# Altium footprint library adafruit.PCBLIB: 643 footprints (part 24 of 41)
Each footprint in its own frame and in the unit in brackets; x right, y up, seen from the top. Pads: shape width x height; smd on the part's side, far side on the other; paste and mask are expansions set on the pad; w line width, h text height; cw(c..) or ccw(c..) is an arc to the next point about the centre after c.
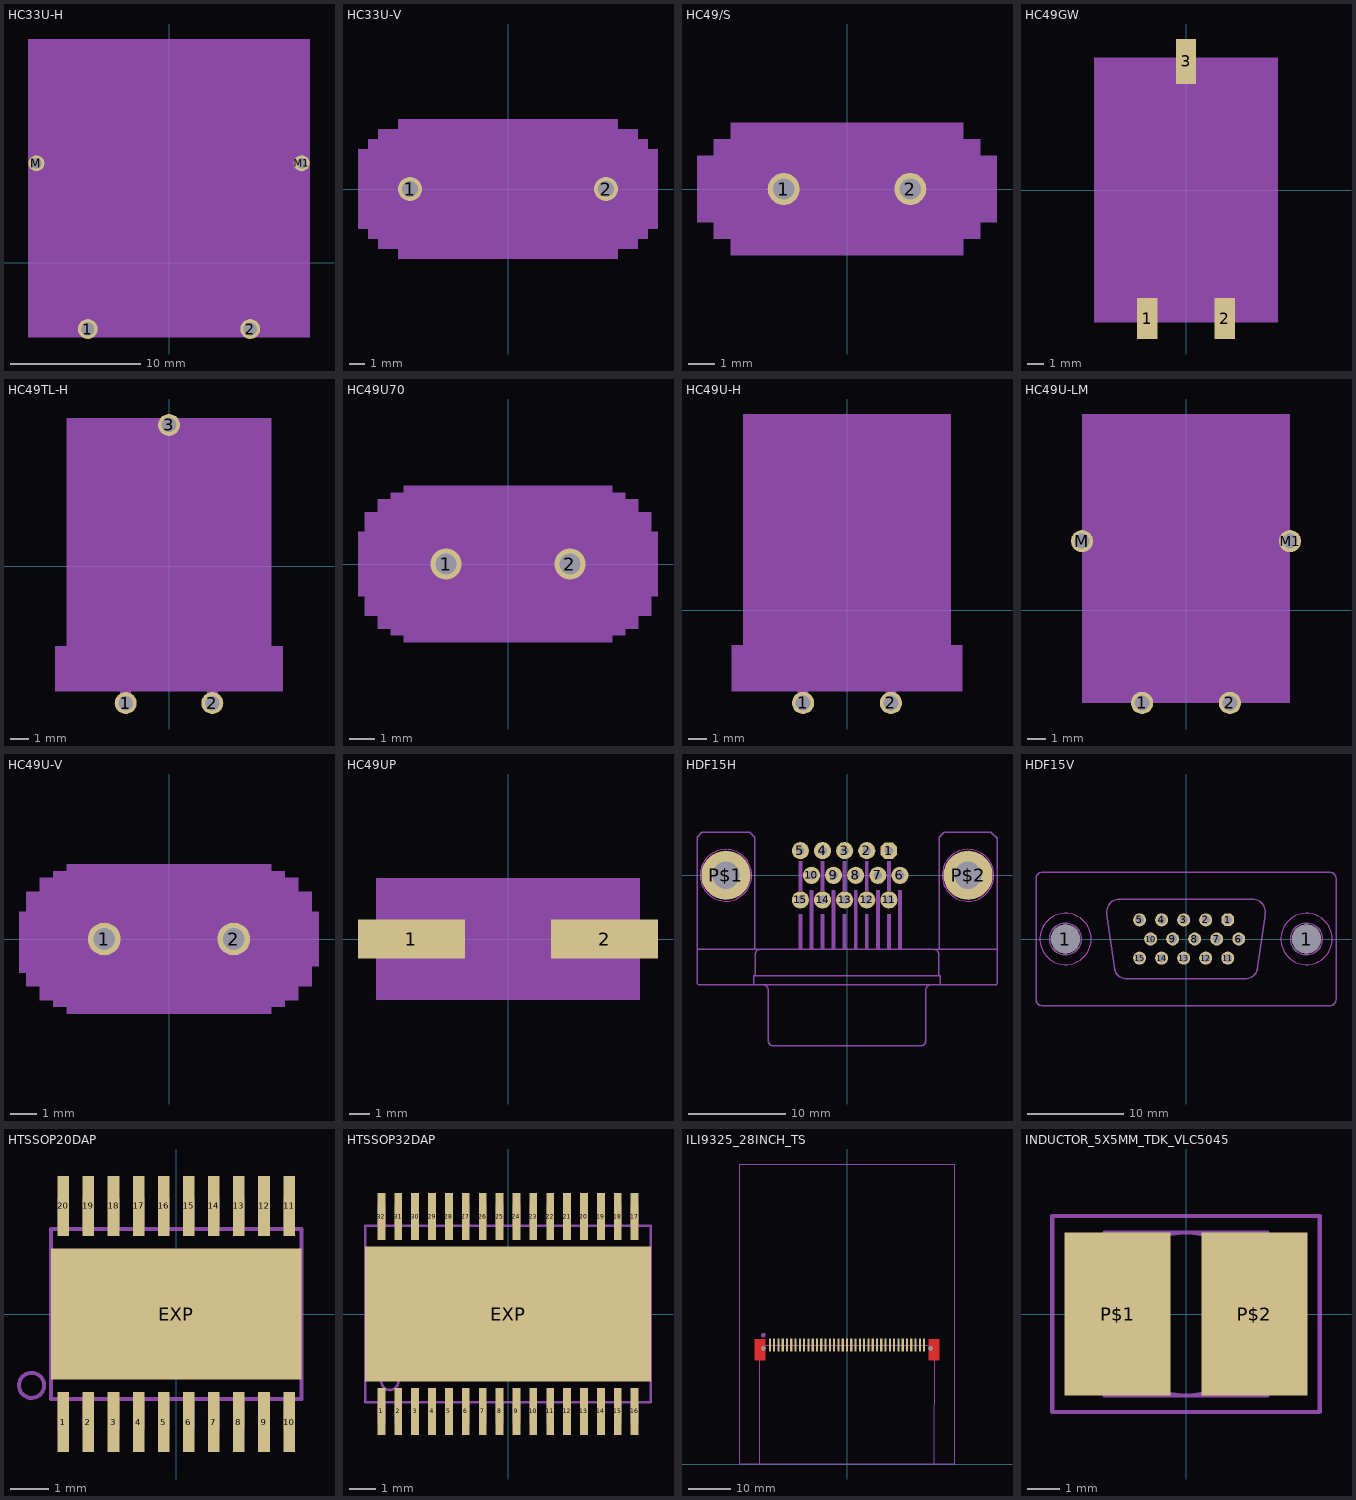
[diagram p23: the footprints below, top view; thin cyan lines are the x and y axes]

## HC33U-H [mil]
pads (4):
  round 60 hole 40: 1(-245,-200) 2(245,-200)
  round 48 hole 32: M(-400,300) M1(400,300)
Mechanical 2:
  rectangle: -300,-125 -275,650
  rectangle: 275,-125 300,650
  lines w6: -365,-120 -365,280 ; -365,320 -365,625 cw(c-340,625) -340,650 340,650 cw(c340,625) 365,625 365,320 ; -75,500 -37,500 ; 37,500 75,500 ; 365,-120 365,280
  lines w12: -37,450 -37,500 -37,550 ; 37,450 37,500 37,550 ; -13,450 -13,550 12,550 12,450 -13,450
  lines w24: -355,300 355,300
  lines w50: -390,-120 -365,-120 365,-120 390,-120
Mechanical 12:
  rectangle: -425,-225 425,675
Mechanical 18:
  lines w6: -365,280 -365,320 ; 365,280 365,320
  lines w24: -400,300 -360,300 ; 360,300 400,300
  lines w32: -245,-200 -245,-125 ; 245,-200 245,-125

## HC33U-V [mil]
pads (2):
  round 60 hole 40: 1(-245,0) 2(245,0)
Mechanical 2:
  lines w2: -205,-145 205,-145 ccw(c205,0) 205,145 -205,145 ccw(c-205,0) -205,-145
  lines w6: -75,50 -38,50 ; 38,50 75,50
  lines w10: -205,-160 205,-160 ccw(c205,0) 205,160 -205,160 ccw(c-205,0) -205,-160
  lines w12: -38,0 -38,50 -38,100 ; 38,0 38,50 38,100 ; -13,0 -13,100 13,100 13,0 -13,0
Mechanical 12:
  rectangle: -325,-150 -275,150
  rectangle: -350,-125 -325,125
  rectangle: -375,-100 -350,100
  rectangle: -275,-175 275,175
  rectangle: 275,-150 325,150
  rectangle: 325,-125 350,125
  rectangle: 350,-100 375,100

## HC49/S [mil]
pads (2):
  round 48 hole 32: 1(-95,0) 2(95,0)
Mechanical 2:
  lines w6: -50,0 -25,0 ; -25,-30 -25,0 ; -25,30 -25,0 ; 25,-30 25,0 ; 25,30 25,0 ; 50,0 25,0 ; -120,-65 120,-65 ccw(c120,0) 120,65 -120,65 ccw(c-120,0) -120,-65 ; -10,-30 10,-30 10,30 -10,30 -10,-30
  lines w16: -120,-85 120,-85 ccw(c120,0) 120,85 -120,85 ccw(c-120,0) -120,-85
Mechanical 12:
  rectangle: -175,-100 175,100
  rectangle: -200,-75 -175,75
  rectangle: -225,-50 -200,50
  rectangle: 175,-75 200,75
  rectangle: 200,-50 225,50

## HC49GW [mil]
pads (3):
  rect 50x100 smd: 1(-95,-315) 2(95,-315)
  rect 50x110 smd: 3(0,315)
Mechanical 2:
  lines w6: -200,-250 -200,240 cw(c-175,240) -175,265 -40,265 ; -80,150 -37,150 ; 37,150 80,150 ; 40,265 175,265 cw(c175,240) 200,240 200,-250
  lines w12: -37,100 -37,150 -37,200 ; 37,100 37,150 37,200 ; -13,100 -13,200 12,200 12,100 -13,100
  lines w32: -200,-250 200,-250
Mechanical 12:
  rectangle: -225,-325 225,325
Mechanical 18:
  lines w6: -40,265 40,265
  lines w24: -95,-325 -95,-260 ; 0,275 0,330 ; 95,-330 95,-255

## HC49TL-H [mil]
pads (3):
  round 48 hole 32: 1(-95,-300) 2(95,-300) 3(0,310)
Mechanical 2:
  lines w6: -200,-225 -200,265 cw(c-175,265) -175,290 -45,290 ; -80,175 -37,175 ; 37,175 80,175 ; 45,290 175,290 cw(c175,265) 200,265 200,-225
  lines w12: -37,125 -37,175 -37,225 ; 37,125 37,175 37,225 ; -13,125 -13,225 12,225 12,125 -13,125
  lines w32: -215,-225 210,-225
Mechanical 12:
  rectangle: -250,-275 250,-175
  rectangle: -225,-175 225,325
Mechanical 18:
  rectangle: -12,290 12,298
  lines w6: -45,290 45,290
  lines w24: -95,-300 -95,-230 ; 0,300 0,310 ; 95,-300 95,-230

## HC49U70 [mil]
pads (2):
  round 48 hole 32: 1(-95,0) 2(95,0)
Mechanical 2:
  lines w6: -55,0 -27,0 ; -27,-40 -27,0 ; -27,40 -27,0 ; 27,-40 27,0 ; 27,40 27,0 ; 55,0 27,0 ; -120,-80 120,-80 ccw(c120,0) 120,80 -120,80 ccw(c-120,0) -120,-80 ; -13,-40 -13,40 12,40 12,-40 -13,-40
  lines w16: -120,-100 120,-100 ccw(c120,0) 120,100 -120,100 ccw(c-120,0) -120,-100
Mechanical 12:
  rectangle: -180,-110 -160,110
  rectangle: -200,-100 -180,100
  rectangle: -220,-80 -200,80
  rectangle: -230,-50 -220,50
  rectangle: -160,-120 160,120
  rectangle: 160,-110 180,110
  rectangle: 180,-100 200,100
  rectangle: 200,-80 220,80
  rectangle: 220,-50 230,50

## HC49U-H [mil]
pads (2):
  round 48 hole 32: 1(-95,-200) 2(95,-200)
Mechanical 2:
  lines w6: -200,-125 -200,365 cw(c-175,365) -175,390 175,390 cw(c175,365) 200,365 200,-125 ; -75,275 -37,275 ; 37,275 75,275
  lines w12: -37,225 -37,275 -37,325 ; 37,225 37,275 37,325 ; -13,225 -13,325 12,325 12,225 -13,225
  lines w32: -200,-125 200,-125
Mechanical 12:
  rectangle: -250,-175 250,-75
  rectangle: -225,-75 225,425
Mechanical 18:
  lines w24: -95,-200 -95,-130 ; 95,-200 95,-130

## HC49U-LM [mil]
pads (4):
  round 48 hole 32: 1(-95,-200) 2(95,-200) M(-225,150) M1(225,150)
Mechanical 2:
  lines w6: -200,-125 -200,125 ; -200,175 -200,365 cw(c-175,365) -175,390 175,390 cw(c175,365) 200,365 200,180 ; -100,275 -37,275 ; 37,275 100,275 ; 200,-125 200,120
  lines w12: -37,225 -37,275 -37,325 ; 37,225 37,275 37,325 ; -13,225 -13,325 12,325 12,225 -13,225
  lines w24: -180,150 180,150
  lines w32: -200,-125 200,-125
Mechanical 12:
  rectangle: -225,-200 225,425
Mechanical 18:
  lines w6: -200,125 -200,175 ; 200,120 200,150 200,180
  lines w24: -225,150 -185,150 ; -95,-200 -95,-130 ; 95,-200 95,-130 ; 180,150 200,150 225,150

## HC49U-V [mil]
pads (2):
  round 48 hole 32: 1(-95,0) 2(95,0)
Mechanical 2:
  lines w6: -50,0 -25,0 ; -25,-35 -25,0 ; -25,35 -25,0 ; 25,-35 25,0 ; 25,35 25,0 ; 50,0 25,0 ; -115,-70 115,-70 ccw(c115,0) 115,70 -115,70 ccw(c-115,0) -115,-70 ; -10,-35 10,-35 10,35 -10,35 -10,-35
  lines w16: -115,-90 115,-90 ccw(c115,0) 115,90 -115,90 ccw(c-115,0) -115,-90
Mechanical 12:
  rectangle: -150,-110 150,110
  rectangle: -170,-100 -150,100
  rectangle: -190,-90 -170,90
  rectangle: -210,-70 -190,70
  rectangle: -220,-50 -210,40
  rectangle: 150,-100 170,100
  rectangle: 170,-90 190,90
  rectangle: 190,-70 210,70
  rectangle: 210,-40 220,40

## HC49UP [mil]
pads (2):
  rect 210x76 smd: 1(-190,0) 2(190,0)
Mechanical 2:
  lines w2: -201.15,-45 ccw(c-135,0) -135,-80 135,-80 ccw(c135,0) 201.14,-45 ; -201.15,45 cw(c-135,-0.01) -135,80 135,80 cw(c135,0) 201.15,45 ; -156.8,-45 ccw(c-135,0.01) -135,-50 135,-50 ccw(c135,0.01) 156.8,-45 ; -156.8,45 cw(c-135,-0.01) -135,50 135,50 cw(c135,-0.01) 156.8,45 ; -40,0 -25,0 ; 25,0 40,0
  lines w6: -225,-45 -225,-85 ccw(c-215,-85) -215,-95 215,-95 ccw(c215,-85) 225,-85 225,-45 ; -225,45 -225,85 cw(c-215,85) -215,95 215,95 cw(c215,85) 225,85 225,45 ; -25,-25 -25,0 -25,25 ; 25,-25 25,0 25,25 ; -10,-25 -10,25 10,25 10,-25 -10,-25
Mechanical 12:
  rectangle: -260,-120 260,120
Mechanical 18:
  lines w2: -201.15,-45 cw(c-135,0) -201.15,45 ; -156.8,-45 cw(c-135,0) -156.8,45 ; 156.8,-45 ccw(c135,0) 156.8,45 ; 201.15,-45 ccw(c135,0) 201.15,45
  lines w6: -225,-45 -225,-15 ; -225,45 -225,15 ; 225,-45 225,45 ; 225,-15 255,-15 255,15 225,15 ; -225,-15 -225,15 ; -225,-15 -255,-15 -255,15 -225,15

## HDF15H [mil]
pads (17):
  oct 67.78x67.78 hole 35.43: 1(170.43,100)
  round 70 hole 35.43: 2(80.43,100) 3(-9.57,100) 4(-99.57,100) 5(-189.57,100) 6(215.43,0) 7(125.43,0) 8(35.43,0) 9(-54.57,0) 10(-144.57,0) 11(170.43,-100) 12(80.43,-100) 13(-9.57,-100) 14(-99.57,-100) 15(-189.57,-100)
  round 200 hole 110.24: P$1(-492.13,0) P$2(492.13,0)
Mechanical 2:
  circle w6: c492.13,0 r65
  circle w6: c-492.13,0 r65
  rectangle: 27.56,-299.21 43.31,-59.06
  rectangle: -62.44,-299.21 -46.69,-59.06
  rectangle: -152.44,-299.21 -136.69,-59.06
  rectangle: 117.56,-299.21 133.31,-59.06
  rectangle: 207.56,-299.21 223.31,-59.06
  rectangle: -17.44,-299.21 -1.69,-157.48
  rectangle: -107.44,-299.21 -91.69,-157.48
  rectangle: -197.44,-299.21 -181.69,-157.48
  rectangle: 72.56,-299.21 88.31,-157.48
  rectangle: 162.56,-299.21 178.31,-157.48
  rectangle: -197.44,-62.99 -181.69,59.06
  rectangle: -107.44,-62.99 -91.69,59.06
  rectangle: -17.44,-62.99 -1.69,59.06
  rectangle: 72.56,-62.99 88.31,59.06
  rectangle: 162.56,-62.99 178.31,59.06
  lines w6: -610,-443.94 -610,-300 ; -605.51,-444.65 609.29,-444.65 ; -378.5,-443.94 -378.5,-408.19 -373.5,-408.19 ; -375,-300 -375,155 -395,175 -590,175 -610,155 -610,-300 ; -348.5,-300 ccw(c-348.5,-325) -373.5,-325 -373.5,-408.19 ; -345,-444.25 cw(c-345,-469.25) -320,-469.25 -320,-673.19 ccw(c-300,-673.19) -300,-693.19 300,-693.19 ccw(c300,-673.19) 320,-673.19 320,-469.25 cw(c345,-469.25) 345,-444.25 ; 348.5,-300 cw(c348.5,-325) 373.5,-325 373.5,-408.19 ; 375,-300 375,155 395,175 585,175 610,150 610,-443.94 ; 378.5,-443.94 378.5,-408.19 373.5,-408.19 ; 609.25,-300 -610,-300 ; -373.5,-408.19 373.5,-408.19
Mechanical 11 keep-out:
  circle w0: c492.13,0 r105
  circle w0: c-492.13,0 r105
Mechanical 12:
  circle w0: c492.13,0 r105
  circle w0: c-492.13,0 r105

## HDF15V [mm]
pads (17):
  round 3 hole 3: 1(-12.5,0) 1(12.5,0)
  oct 1.307x1.307 hole 0.9: 1(4.329,1.98)
  round 1.35 hole 0.9: 2(2.043,1.98) 3(-0.243,1.98) 4(-2.529,1.98) 5(-4.815,1.98) 6(5.472,0) 7(3.186,0) 8(0.9,0) 9(-1.386,0) 10(-3.672,0) 11(4.329,-1.98) 12(2.043,-1.98) 13(-0.243,-1.98) 14(-2.529,-1.98) 15(-4.815,-1.98)
Mechanical 2:
  circle w0.152: c12.5,0 r1.651
  circle w0.152: c-12.5,0 r1.651
  lines w0.152: -14.921,-6.923 cw(c-14.921,-6.288) -15.556,-6.288 -15.556,6.288 cw(c-14.921,6.288) -14.921,6.923 14.913,6.923 ; -14.913,-6.923 14.921,-6.923 ccw(c14.921,-6.288) 15.556,-6.288 15.556,6.288 ccw(c14.921,6.288) 14.921,6.923 ; -8.196,2.527 cw(c-6.876,2.791) -6.876,4.137 6.876,4.137 cw(c6.876,2.791) 8.191,2.504 ; -8.197,2.537 -7.409,-3.146 ; -7.417,-3.13 ccw(c-6.114,-2.791) -6.114,-4.137 6.114,-4.137 ccw(c6.114,-2.791) 7.417,-3.13 ; 7.409,-3.121 8.197,2.511
Mechanical 11 keep-out:
  circle w0: c12.5,0 r2.667
  circle w0: c-12.5,0 r2.667
Mechanical 12:
  circle w0: c12.5,0 r2.667
  circle w0: c-12.5,0 r2.667

## HTSSOP20DAP [mil]
pads (21):
  rect 11.81x61.02 smd: 1(-115.16,-110.24) 2(-89.57,-110.24) 3(-63.98,-110.24) 4(-38.39,-110.24) 5(-12.8,-110.24) 6(12.8,-110.24) 7(38.39,-110.24) 8(63.98,-110.24) 9(89.57,-110.24) 10(115.16,-110.24) 11(115.16,110.24) 12(89.57,110.24) 13(63.98,110.24) 14(38.39,110.24) 15(12.8,110.24) 16(-12.8,110.24) 17(-38.39,110.24) 18(-63.98,110.24) 19(-89.57,110.24) 20(-115.16,110.24)
  rect 255.91x133.86 smd paste-127.95 mask-127.95: EXP(0,0)
Top Paste:
  region: 0,0 10,0 10,10 0,10
Top Solder:
  region: 0,0 10,0 10,10 0,10
Mechanical 2:
  circle w4: c-147.64,-72.83 r12.8
  lines w4: -127.95,-86.61 127.95,-86.61 127.95,86.61 -127.95,86.61 -127.95,-86.61
Mechanical 18:
  rectangle: -121.06,-118.11 -109.25,-88.58
  rectangle: -95.47,-118.11 -83.66,-88.58
  rectangle: -69.88,-118.11 -58.07,-88.58
  rectangle: -44.29,-118.11 -32.48,-88.58
  rectangle: -18.7,-118.11 -6.89,-88.58
  rectangle: 6.89,-118.11 18.7,-88.58
  rectangle: 32.48,-118.11 44.29,-88.58
  rectangle: 58.07,-118.11 69.88,-88.58
  rectangle: 83.66,-118.11 95.47,-88.58
  region: 121.06,118.11 109.25,118.11 109.25,88.58 121.06,88.58
  region: 95.47,118.11 83.66,118.11 83.66,88.58 95.47,88.58
  region: 69.88,118.11 58.07,118.11 58.07,88.58 69.88,88.58
  region: 44.29,118.11 32.48,118.11 32.48,88.58 44.29,88.58
  region: 18.7,118.11 6.89,118.11 6.89,88.58 18.7,88.58
  region: -6.89,118.11 -18.7,118.11 -18.7,88.58 -6.89,88.58
  region: -32.48,118.11 -44.29,118.11 -44.29,88.58 -32.48,88.58
  region: -58.07,118.11 -69.88,118.11 -69.88,88.58 -58.07,88.58
  region: -83.66,118.11 -95.47,118.11 -95.47,88.58 -83.66,88.58
  region: -109.25,118.11 -121.06,118.11 -121.06,88.58 -109.25,88.58
  rectangle: 109.25,-118.11 121.06,-88.58

## HTSSOP32DAP [mil]
pads (33):
  rect 11.81x70.87 smd: 1(-191.93,-147.64) 2(-166.34,-147.64) 3(-140.75,-147.64) 4(-115.16,-147.64) 5(-89.57,-147.64) 6(-63.98,-147.64) 7(-38.39,-147.64) 8(-12.8,-147.64) 9(12.8,-147.64) 10(38.39,-147.64) 11(63.98,-147.64) 12(89.57,-147.64) 13(115.16,-147.64) 14(140.75,-147.64) 15(166.34,-147.64) 16(191.93,-147.64) 17(191.93,147.64) 18(166.34,147.64) 19(140.75,147.64) 20(115.16,147.64) 21(89.57,147.64) 22(63.98,147.64) 23(38.39,147.64) 24(12.8,147.64) 25(-12.8,147.64) 26(-38.39,147.64) 27(-63.98,147.64) 28(-89.57,147.64) 29(-115.16,147.64) 30(-140.75,147.64) 31(-166.34,147.64) 32(-191.93,147.64)
  rect 433.07x204.72 smd paste-216.53 mask-216.53: EXP(0,0)
Top Paste:
  rectangle: -70.87,-47.24 70.87,47.24
Top Solder:
  region: 0,0 10,0 10,10 0,10
Mechanical 2:
  circle w4: c-179.13,-102.36 r12.8
  lines w4: -216.54,-133.86 216.54,-133.86 216.54,133.86 -216.54,133.86 -216.54,-133.86
Mechanical 18:
  rectangle: -197.83,-165.35 -186.02,-135.83
  rectangle: -172.24,-165.35 -160.43,-135.83
  rectangle: -146.65,-165.35 -134.84,-135.83
  rectangle: -121.06,-165.35 -109.25,-135.83
  rectangle: -95.47,-165.35 -83.66,-135.83
  rectangle: -69.88,-165.35 -58.07,-135.83
  rectangle: -44.29,-165.35 -32.48,-135.83
  rectangle: -18.7,-165.35 -6.89,-135.83
  rectangle: 6.89,-165.35 18.7,-135.83
  rectangle: 32.48,-165.35 44.29,-135.83
  rectangle: 58.07,-165.35 69.88,-135.83
  rectangle: 83.66,-165.35 95.47,-135.83
  rectangle: 109.25,-165.35 121.06,-135.83
  rectangle: 134.84,-165.35 146.65,-135.83
  rectangle: 160.43,-165.35 172.24,-135.83
  rectangle: 186.02,-165.35 197.83,-135.83
  region: 197.83,165.35 186.02,165.35 186.02,135.83 197.83,135.83
  region: 172.24,165.35 160.43,165.35 160.43,135.83 172.24,135.83
  region: 146.65,165.35 134.84,165.35 134.84,135.83 146.65,135.83
  region: 121.06,165.35 109.25,165.35 109.25,135.83 121.06,135.83
  region: 95.47,165.35 83.66,165.35 83.66,135.83 95.47,135.83
  region: 69.88,165.35 58.07,165.35 58.07,135.83 69.88,135.83
  region: 44.29,165.35 32.48,165.35 32.48,135.83 44.29,135.83
  region: 18.7,165.35 6.89,165.35 6.89,135.83 18.7,135.83
  region: -6.89,165.35 -18.7,165.35 -18.7,135.83 -6.89,135.83
  region: -32.48,165.35 -44.29,165.35 -44.29,135.83 -32.48,135.83
  region: -58.07,165.35 -69.88,165.35 -69.88,135.83 -58.07,135.83
  region: -83.66,165.35 -95.47,165.35 -95.47,135.83 -83.66,135.83
  region: -109.25,165.35 -121.06,165.35 -121.06,135.83 -109.25,135.83
  region: -134.84,165.35 -146.65,165.35 -146.65,135.83 -134.84,135.83
  region: -160.43,165.35 -172.24,165.35 -172.24,135.83 -160.43,135.83
  region: -186.02,165.35 -197.83,165.35 -197.83,135.83 -186.02,135.83

## ILI9325_28INCH_TS [mm]
pads (39):
  round 1 hole 1: 1(-19.5,27) 1(19.5,27)
  rect 0.5x3 smd: 1(-18,27.77) 2(-17,27.77) 3(-16,27.77) 4(-15,27.77) 5(-14,27.77) 6(-13,27.77) 7(-12,27.77) 8(-11,27.77) 9(-10,27.77) 10(-9,27.77) 11(-8,27.77) 12(-7,27.77) 13(-6,27.77) 14(-5,27.77) 15(-4,27.77) 16(-3,27.77) 17(-2,27.77) 18(-1,27.77) 19(0,27.77) 20(1,27.77) 21(2,27.77) 22(3,27.77) 23(4,27.77) 24(5,27.77) 25(6,27.77) 26(7,27.77) 27(8,27.77) 28(9,27.77) 29(10,27.77) 30(11,27.77) 31(12,27.77) 32(13,27.77) 33(14,27.77) 34(15,27.77) 35(16,27.77) 36(17,27.77) 37(18,27.77)
Top Layer:
  rectangle: -21.59,24.13 -19.05,29.21
  rectangle: 19.05,24.13 21.59,29.21
Top Solder:
  rectangle: -21.59,24.13 -19.05,29.21
  rectangle: 19.05,24.13 21.59,29.21
Mechanical 2:
  circle w0.61: c-19.534,30.054 r0.254
  lines w0.127: -20.4,0 -20.4,27.686 20.4,27.686 20.3,0 ; -20.4,0 20.3,0 ; -20.4,0 -25,0 -25,70 25,70 25,0 20.3,0

## INDUCTOR_5X5MM_TDK_VLC5045 [mm]
pads (2):
  rect 3.25x5 smd: P$1(-2.1,0) P$2(2.1,0)
Mechanical 2:
  lines w0.127: -4.1,-3 4.1,-3 4.1,3 -4.1,3 -4.1,-3
Mechanical 18:
  circle w0.127: c0,0 r2.5
  lines w0.127: -2.5,-2.5 2.5,-2.5 2.5,2.5 -2.5,2.5 -2.5,-2.5